# EAGLE library part ISO7842 (library texas-instruments)
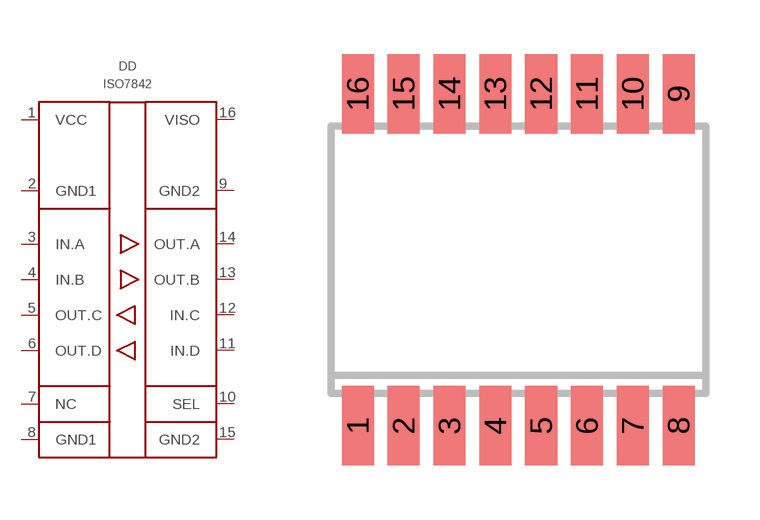
[diagram p35: symbol with the pads of SOIC16; footprint SOIC16]

Designator prefix DD

## ISO7842DWER  [SOIC16]
1  VCC  pwr
2  GND1  pwr
3  IN.A  in
4  IN.B  in
5  OUT.C  out
6  OUT.D  out
7  NC  nc
8  GND1  pwr
9  GND2  pwr
10  SEL  in
11  IN.D  in
12  IN.C  in
13  OUT.B  out
14  OUT.A  out
15  GND2  pwr
16  VISO  pwr

## Footprint SOIC16 (pad centres in mm)
SMALL OUTLINE INTEGRATED CIRCUIT wide body 7.5 mm/JEDEC MS-013AA
smd 0.889 x 2.2: 1 -4.445,-4.6; 2 -3.175,-4.6; 3 -1.905,-4.6; 4 -0.635,-4.6; 5 0.635,-4.6; 6 1.905,-4.6; 7 3.175,-4.6; 8 4.445,-4.6; 9 4.445,4.6; 10 3.175,4.6; 11 1.905,4.6; 12 0.635,4.6; 13 -0.635,4.6; 14 -1.905,4.6; 15 -3.175,4.6; 16 -4.445,4.6